# Altium footprint library IM69D128.PcbLib: 1 footprints
Each footprint in its own frame and in the unit in brackets; x right, y up, seen from the top. Pads: shape width x height; smd on the part's side, far side on the other; paste and mask are expansions set on the pad; w line width, h text height; cw(c..) or ccw(c..) is an arc to the next point about the centre after c.
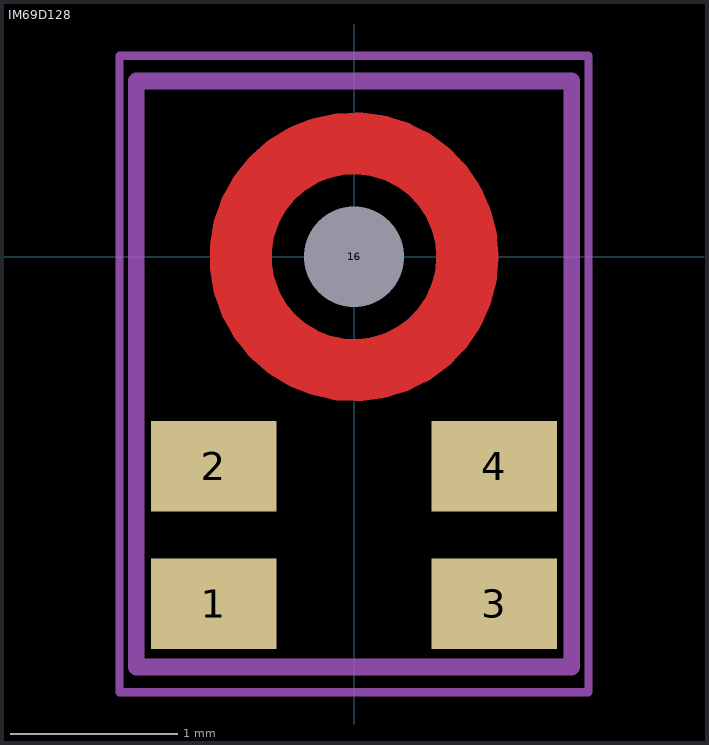
[diagram p0: the footprint, top view; thin cyan lines are the x and y axes]

## IM69D128 [mm]
pads (6):
  rect 0.75x0.54 smd: 1(-0.838,-2.072) 2(-0.838,-1.252) 3(0.838,-2.072) 4(0.838,-1.252)
  round 0 smd paste-2539.97: 5(0,0)
  round 0.1 hole 0.6: 16(0,0)
Top Layer:
  circle w0.37: c0,0 r0.678
Top Paste:
  lines w0.35: -0.585,-0.337 ccw(c0,0) 0.585,-0.337 ; -0.585,0.337 cw(c0,0) 0.585,0.337
Top Assembly:
  lines w0.1: -1.3,-2.45 -1.3,1.05 1.3,1.05 1.3,-2.45 -1.3,-2.45
Top Courtyard:
  lines w0.05: -1.4,-2.6 1.4,-2.6 1.4,1.2 -1.4,1.2 -1.4,-2.6
3D body "PG-TLGA-5-2_Z8B00234305_V05_3D.stp": height 1.06, standoff 0, extent -1.325,-2.45 1.325,1.05